# Altium footprint library ECS-TXO-3225-122P8-TR.PcbLib: 3 footprints
Each footprint in its own frame and in the unit in brackets; x right, y up, seen from the top. Pads: shape width x height; smd on the part's side, far side on the other; paste and mask are expansions set on the pad; w line width, h text height; cw(c..) or ccw(c..) is an arc to the next point about the centre after c.
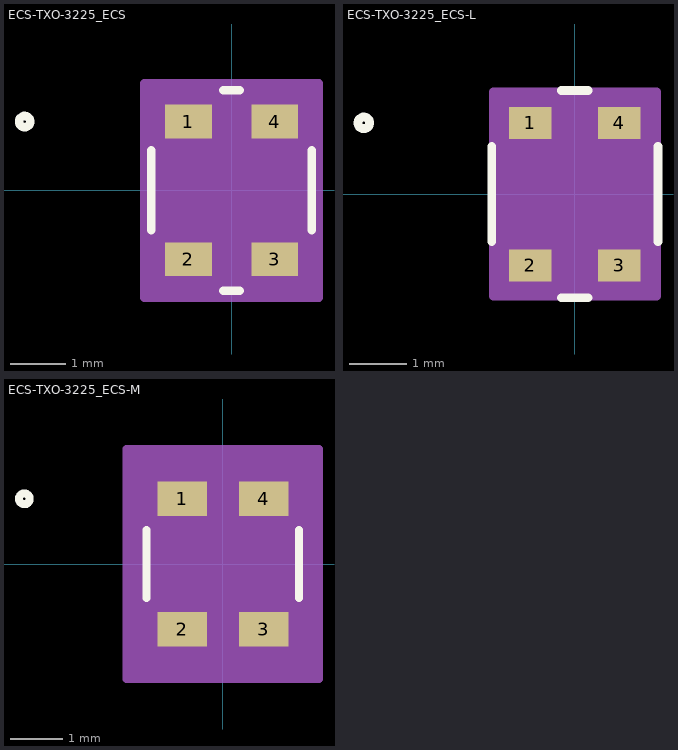
[diagram p0: the footprints below, top view; thin cyan lines are the x and y axes]

## ECS-TXO-3225_ECS [mil]
pads (4):
  rect 33x24 smd paste+0 mask+0: 1(-30.5,48.82) 2(-30.5,-48.82) 3(30.5,-48.82) 4(30.5,48.82)
Top Overlay:
  circle w6: c-146.64,48.82 r4
  lines w6: -57,-28.36 -57,28.36 ; -5.76,-71 5.76,-71 ; -5.76,71 5.76,71 ; 57,-28.36 57,28.36
Mechanical 13:
  circle w0: c-14,48.82 r3
  lines w0: -12,66 ccw(c0,66) 12,66
  lines w1: -52,-66 52,-66 52,66 -52,66 -52,-66
Mechanical 15:
  region: -62,-70.82 -62,70.82 -62,76 62,76 62,70.82 62,-70.82 62,-76 -62,-76
  lines w6: -62,-70.82 -62,70.82 ; -62,-70.82 -62,-70.82 ; -62,-70.82 -62,-76 62,-76 62,-70.82 ; -62,70.82 -62,70.82 ; -62,70.82 -62,76 62,76 62,70.82 ; 62,-70.82 62,70.82 ; 62,-70.82 62,-70.82 ; 62,70.82 62,70.82
3D body "ECS-TXO-3225_ECS.step": height 39.09, standoff 0, extent -52.01,-65.98 52.01,65.98

## ECS-TXO-3225_ECS-L [mil]
pads (4):
  rect 29x22 smd paste+0 mask+0: 1(-30.5,48.82) 2(-30.5,-48.82) 3(30.5,-48.82) 4(30.5,48.82)
Top Overlay:
  circle w6: c-144.64,48.82 r4
  lines w6: -57,-32.56 -57,32.56 ; -9.17,-71 9.17,-71 ; -9.17,71 9.17,71 ; 57,-32.56 57,32.56
Mechanical 13:
  circle w0: c-16,48.82 r3
  lines w0: -12,66 ccw(c0,66) 12,66
  lines w1: -52,-66 52,-66 52,66 -52,66 -52,-66
Mechanical 15:
  region: -56,-63.82 -56,63.82 -56,70 56,70 56,63.82 56,-63.82 56,-70 -56,-70
  lines w6: -56,-63.82 -56,63.82 ; -56,-63.82 -56,-63.82 ; -56,-63.82 -56,-70 56,-70 56,-63.82 ; -56,63.82 -56,63.82 ; -56,63.82 -56,70 56,70 56,63.82 ; 56,-63.82 56,63.82 ; 56,-63.82 56,-63.82 ; 56,63.82 56,63.82
3D body "ECS-TXO-3225_ECS.step": height 39.09, standoff 0, extent -52.01,-65.98 52.01,65.98

## ECS-TXO-3225_ECS-M [mil]
pads (4):
  rect 37x26 smd paste+0 mask+0: 1(-30.5,48.82) 2(-30.5,-48.82) 3(30.5,-48.82) 4(30.5,48.82)
Top Overlay:
  circle w6: c-148.64,48.82 r4
  lines w6: -57,-25.45 -57,25.45 ; 57,-25.45 57,25.45
Mechanical 13:
  circle w0: c-12,48.82 r3
  lines w0: -12,66 ccw(c0,66) 12,66
  lines w1: -52,-66 52,-66 52,66 -52,66 -52,-66
Mechanical 15:
  region: -72,-81.82 -72,81.82 -72,86 72,86 72,81.82 72,-81.82 72,-86 -72,-86
  lines w6: -72,-81.82 -72,81.82 ; -72,-81.82 -72,-81.82 ; -72,-81.82 -72,-86 72,-86 72,-81.82 ; -72,81.82 -72,81.82 ; -72,81.82 -72,86 72,86 72,81.82 ; 72,-81.82 72,81.82 ; 72,-81.82 72,-81.82 ; 72,81.82 72,81.82
3D body "ECS-TXO-3225_ECS.step": height 39.09, standoff 0, extent -52.01,-65.98 52.01,65.98